# Altium footprint library IC.PcbLib: 15 footprints
Each footprint in its own frame and in the unit in brackets; x right, y up, seen from the top. Pads: shape width x height; smd on the part's side, far side on the other; paste and mask are expansions set on the pad; w line width, h text height; cw(c..) or ccw(c..) is an arc to the next point about the centre after c.
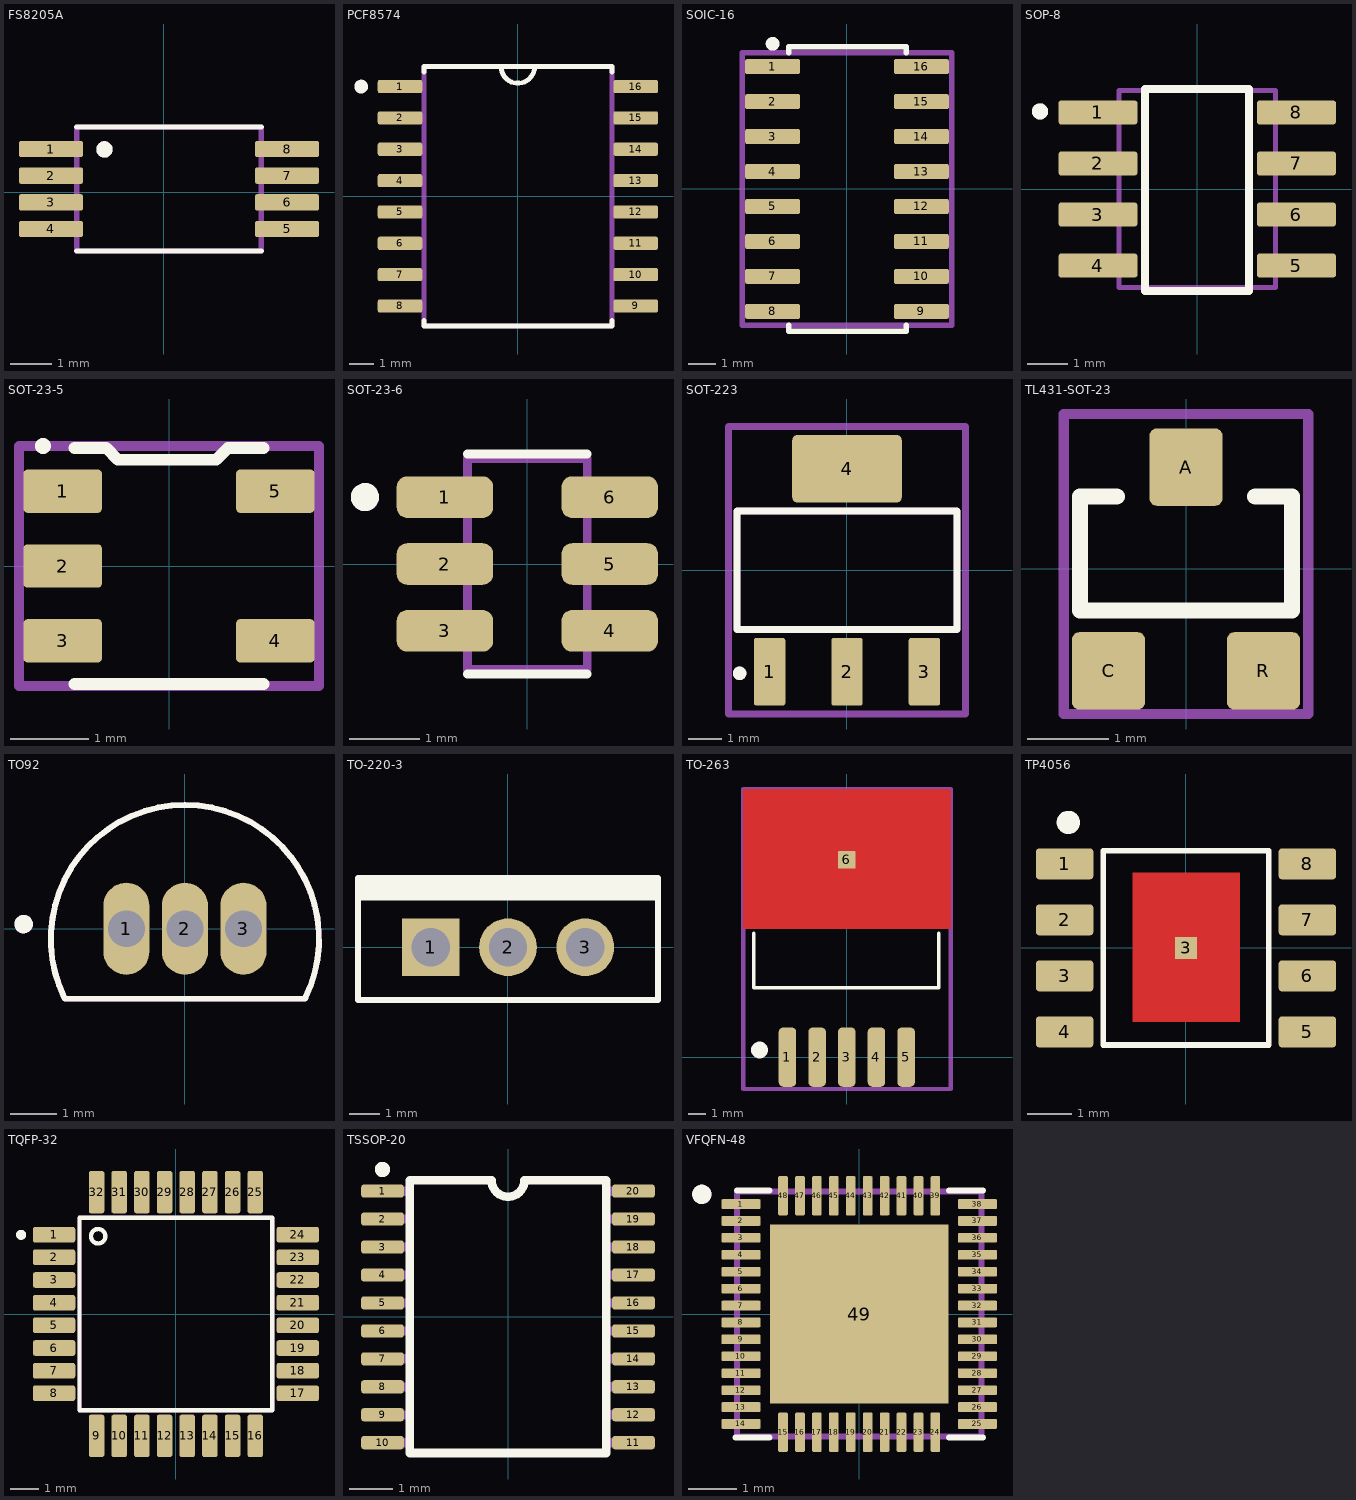
[diagram p0: the footprints below, top view; thin cyan lines are the x and y axes]

## FS8205A [mm]
pads (8):
  rrect25% 1.56x0.4 smd: 1(-2.753,1.051) 2(-2.753,0.401) 3(-2.753,-0.249) 4(-2.753,-0.899) 5(3.007,-0.899) 6(3.007,-0.249) 7(3.007,0.401) 8(3.007,1.051)
Top Overlay:
  circle w0.2: c-1.448,1.041 r0.1
  lines w0.127: -2.123,-1.439 2.377,-1.439 ; -2.123,1.591 2.377,1.591
Mechanical 13:
  circle w0.2: c-1.448,1.041 r0.1
  lines w0.127: -2.123,-1.439 -2.123,1.591 2.377,1.591 2.377,-1.439 -2.123,-1.439
3D body "TSSOP-8.STEP": height 1.11, standoff 0.01, extent -3.149,-1.457 3.251,1.542

## PCF8574 [mil]
pads (16):
  rrect30% 71x21 smd: 1(-188,175) 2(-188,125) 3(-188,75) 4(-188,25) 5(-188,-25) 6(-188,-75) 7(-188,-125) 8(-188,-175) 9(188,-175) 10(188,-125) 11(188,-75) 12(188,-25) 13(188,25) 14(188,75) 15(188,125) 16(188,175)
Top Overlay:
  circle w11.81: c-250,175 r5
  lines w7.87: -150,-198 -150,-207 150,-207 150,-198 ; -150,198 -150,207 -12,207 12,207 150,207 150,198 ; -26.73,207 ccw(c0,207) 26.73,207
Mechanical 13:
  lines w7.87: -150,-207 -150,207 150,207 150,-207 -150,-207
3D body "SOIC16 wide.stp": height 78.74, standoff 0.13, extent -200.06,-198.43 200.06,198.43

## SOIC-16 [mm]
pads (16):
  rrect30% 2x0.55 smd: 1(-2.7,4.445) 2(-2.7,3.175) 3(-2.7,1.905) 4(-2.7,0.635) 5(-2.7,-0.635) 6(-2.7,-1.905) 7(-2.7,-3.175) 8(-2.7,-4.445) 9(2.7,-4.445) 10(2.7,-3.175) 11(2.7,-1.905) 12(2.7,-0.635) 13(2.7,0.635) 14(2.7,1.905) 15(2.7,3.175) 16(2.7,4.445)
Top Overlay:
  circle w0.25: c-2.7,5.27 r0.125
  lines w0.2: -2.108,-4.95 -2.108,-5.156 2.159,-5.156 2.159,-4.953 ; -2.108,4.95 -2.108,5.156 2.159,5.156 2.159,4.953
Mechanical 13:
  lines w0.2: -3.81,-4.95 -3.81,4.95 3.81,4.95 3.81,-4.95 -3.81,-4.95
3D body "User Library-SOIC-16-1.step": height 1.4, standoff 0, extent -3,-4.95 3,4.95

## SOP-8 [mm]
pads (8):
  rrect25% 1.97x0.6 smd: 1(-2.47,1.905) 2(-2.47,0.635) 3(-2.47,-0.635) 4(-2.47,-1.905) 5(2.47,-1.905) 6(2.47,-0.635) 7(2.47,0.635) 8(2.47,1.905)
Top Overlay:
  circle w0.2: c-3.912,1.93 r0.1
  lines w0.2: -1.295,-2.54 1.295,-2.54 1.295,2.489 -1.295,2.489 -1.295,-2.54
Mechanical 13:
  circle w0.2: c-3.912,1.93 r0.1
  lines w0.127: -1.95,-2.452 -1.95,2.452 1.95,2.452 1.95,-2.452 -1.95,-2.452
3D body "S08.stp": height 1.55, standoff 0, extent -2.949,-2.45 3.051,2.45

## SOT-23-5 [mm] "SOT-23-5"
height 1.1
pads (5):
  rrect20% 1x0.55 smd: 1(-1.35,0.95) 2(-1.35,0) 3(-1.35,-0.95) 4(1.35,-0.95) 5(1.35,0.95)
Top Overlay:
  circle w0.1: c-1.6,1.524 r0.051
  lines w0.15: -1.2,-1.5 1.2,-1.5 ; -1.2,1.5 -0.8,1.5 -0.65,1.35 0.6,1.35 0.75,1.5 1.2,1.5
Mechanical 13:
  lines w0.127: -1.905,-1.524 -1.905,1.524 1.905,1.524 1.905,-1.524 -1.905,-1.524
3D body "SOT23_5.stp": height 0.92, standoff 0.01, extent -1.603,-1.5 1.602,1.5

## SOT-23-6 [mm]
pads (6):
  rrect50% 1.37x0.59 smd: 1(-1.17,0.95) 2(-1.17,0) 3(-1.17,-0.95) 4(1.17,-0.95) 5(1.17,0) 6(1.17,0.95)
Top Overlay:
  circle w0.2: c-2.305,0.95 r0.1
  lines w0.127: -0.85,-1.565 0.85,-1.565 ; -0.85,1.565 0.85,1.565
Mechanical 13:
  circle w0.2: c-2.305,0.95 r0.1
  lines w0.127: -0.85,-1.5 0.85,-1.5 0.85,1.5 -0.85,1.5 -0.85,-1.5
3D body "MT3608--3DModel-STEP-56544.STEP": height 1.45, standoff 0, extent -1.451,-1.45 1.349,1.45

## SOT-223 [mm]
pads (4):
  rrect15% 0.93x2 smd: 1(-2.29,-3) 2(0,-3) 3(2.29,-3)
  rrect15% 3.24x2 smd: 4(0,3)
Top Overlay:
  circle w0.2: c-3.175,-3.048 r0.1
  lines w0.2: -3.252,-1.753 3.253,-1.753 3.253,1.753 -3.252,1.753 -3.252,-1.753
Mechanical 13:
  circle w0.2: c-3.175,-3.048 r0.1
  lines w0.2: -3.502,-4.25 3.503,-4.25 3.503,4.25 -3.502,4.25 -3.502,-4.25 ; -3.252,-1.753 3.253,-1.753 3.253,1.753 -3.252,1.753 -3.252,-1.753
3D body "SW3DPS-SOT-223-DEFAULT.step": height 1.68, standoff 0, extent -3.25,-3.429 3.25,3.531

## TL431-SOT-23 [mm]
height 1.1
pads (3):
  rrect20% 0.9x0.95 smd: A(0,1.25) C(-0.95,-1.25) R(0.95,-1.25)
Top Overlay:
  lines w0.2: -0.85,0.889 -1.3,0.889 -1.3,-0.508 1.3,-0.508 1.3,0.889 0.85,0.889
Mechanical 13:
  lines w0.127: -1.5,-1.778 -1.5,1.9 1.5,1.9 1.5,-1.778 -1.5,-1.778
3D body "SOT23-3.stp": height 1.2, standoff 0.02, extent -1.5,-1.418 1.5,1.418

## TO92 [mm]
pads (3):
  oval 1x2 hole 0.8: 1(-1.27,0) 2(0,0) 3(1.27,0)
Top Overlay:
  circle w0.2: c-3.5,0.1 r0.1
  lines w0.127: -2.615,-1.499 cw(c0,-0.224) 2.615,-1.499 ; -2.605,-1.52 2.605,-1.52
Mechanical 13:
  circle w0.2: c-3.5,0.1 r0.1
  lines w0.127: -2.615,-1.499 cw(c0,-0.224) 2.615,-1.499 ; -2.605,-1.52 2.605,-1.52
3D body "TO-92.stp": height 6.18, standoff -3, extent -2.29,-1.21 2.282,2.35

## TO-220-3 [mm] "TO-92"
height 5.08
pads (3):
  rect 1.91x1.91 hole 1.27: 1(-2.55,0)
  round 1.91 hole 1.27: 2(0,0) 3(2.55,0)
Top Overlay:
  region: -4.953,2.286 -4.953,1.651 4.953,1.651 4.953,2.286
  lines w0.2: -4.953,1.651 4.953,1.651 ; -4.953,-1.74 -4.953,2.286 4.953,2.286 4.953,-1.74 -4.953,-1.74
Mechanical 13:
  lines w0.127: -4.953,-1.74 -4.953,2.286 4.953,2.286 4.953,-1.74 -4.953,-1.74
3D body "7508.SLDPRT": height 20, standoff -8.2, extent -5,-1.714 5,2.296

## TO-263 [mm]
pads (6):
  rrect50% 1x3.4 smd: 1(-3.4,0) 2(-1.7,0) 3(0,0) 4(1.7,0) 5(3.4,0)
  rrect8% 1x1 smd mask+0: 6(0,11.303)
Top Layer:
  region: -5.944,7.366 -5.944,15.367 5.969,15.367 5.969,7.366
Top Overlay:
  circle w0.5: c-5.004,0.406 r0.23
  lines w0.2: -5.334,7.087 -5.334,3.962 5.258,3.962 5.258,7.087
Top Solder:
  region: -5.944,7.366 -5.944,15.367 5.969,15.367 5.969,7.366
Mechanical 13:
  lines w0.254: -5.944,-1.829 -5.944,15.367 5.969,15.367 5.969,-1.829 -5.944,-1.829
3D body "SW3dPS-TO-263 5Ld.STEP": height 4.62, standoff 0.04, extent -5.11,-0.87 5.05,13.77

## TP4056 [mm]
pads (9):
  rrect20% 1.3x0.7 smd: 1(-2.75,1.905) 2(-2.75,0.635) 3(-2.75,-0.635) 4(-2.75,-1.905) 5(2.75,-1.905) 6(2.75,-0.635) 7(2.75,0.635) 8(2.75,1.905)
  rect 0.5x0.5 smd mask+0.102: 3(0,0)
Top Layer:
  region: -1.206,-1.676 -1.206,1.702 1.219,1.702 1.219,-1.676
Top Overlay:
  circle w0.3: c-2.667,2.845 r0.114
  lines w0.127: -1.88,-2.2 -1.88,2.2 1.88,2.2 1.88,-2.2 -1.88,-2.2
Top Paste:
  region: -0.254,0.508 -1.143,0.508 -1.143,1.524 -0.254,1.524
  region: 1.143,0.508 0.254,0.508 0.254,1.524 1.143,1.524
  region: -0.254,-1.397 -1.143,-1.397 -1.143,-0.381 -0.254,-0.381
  region: 1.143,-1.397 0.254,-1.397 0.254,-0.381 1.143,-0.381
Top Solder:
  region: -1.206,-1.676 1.219,-1.676 1.219,1.702 -1.206,1.702
3D body "CSD88539ND.STEP": height 1.75, standoff 0, extent -2.997,-2.426 2.997,2.477

## TQFP-32 [mm]
pads (32):
  rrect30% 1.5x0.55 smd: 1(-4.3,2.8) 2(-4.3,2) 3(-4.3,1.2) 4(-4.3,0.4) 5(-4.3,-0.4) 6(-4.3,-1.2) 7(-4.3,-2) 8(-4.3,-2.8) 17(4.3,-2.8) 18(4.3,-2) 19(4.3,-1.2) 20(4.3,-0.4) 21(4.3,0.4) 22(4.3,1.2) 23(4.3,2) 24(4.3,2.8)
  rrect30% 0.55x1.5 smd: 9(-2.8,-4.3) 10(-2,-4.3) 11(-1.2,-4.3) 12(-0.4,-4.3) 13(0.4,-4.3) 14(1.2,-4.3) 15(2,-4.3) 16(2.8,-4.3) 25(2.8,4.3) 26(2,4.3) 27(1.2,4.3) 28(0.4,4.3) 29(-0.4,4.3) 30(-1.2,4.3) 31(-2,4.3) 32(-2.8,4.3)
Top Overlay:
  circle w0.152: c-2.743,2.743 r0.254
  circle w0.203: c-5.461,2.794 r0.076
  lines w0.152: -3.4,-3.4 -3.4,3.4 3.4,3.4 3.4,-3.4 -3.4,-3.4
Mechanical 13:
  lines w0.152: -3.4,-3.4 -3.4,3.4 3.4,3.4 3.4,-3.4 -3.4,-3.4
3D body "Package, TQFP, 32, 7x7x1mm.STEP": height 1.1, standoff 0, extent -4.502,-4.499 4.502,4.499

## TSSOP-20 [mil]
pads (20):
  rrect40% 39x12 smd: 1(-114.87,115.16) 2(-114.87,89.57) 3(-114.87,63.98) 4(-114.87,38.39) 5(-114.87,12.8) 6(-114.87,-12.8) 7(-114.87,-38.39) 8(-114.87,-63.98) 9(-114.87,-89.57) 10(-114.87,-115.16) 11(114.87,-115.16) 12(114.87,-89.57) 13(114.87,-63.98) 14(114.87,-38.39) 15(114.87,-12.8) 16(114.87,12.8) 17(114.87,38.39) 18(114.87,63.98) 19(114.87,89.57) 20(114.87,115.16)
Top Overlay:
  circle w8: c-115,135 r3
  lines w7.87: -89.87,-124.59 -89.87,124.59 cw(c-89.46,124.59) -89.46,125 -15,125 ccw(c0,125) 15,125 89.46,125 cw(c89.46,124.59) 89.87,124.59 89.87,-124.59 -89.87,-124.59
Mechanical 13:
  region: -123.02,111.16 -123.02,119.3 -89.87,119.3 -89.87,111.16
  region: -123.12,85.57 -123.12,93.75 -89.87,93.75 -89.87,85.57
  region: -122.88,59.98 -122.88,67.98 -89.87,67.98 -89.87,59.98
  region: -123.08,34.39 -123.08,42.46 -89.87,42.46 -89.87,34.39
  region: -123.1,8.8 -123.1,16.83 -89.87,16.83 -89.87,8.8
  region: -122.9,-16.8 -122.9,-8.8 -89.87,-8.8 -89.87,-16.8
  region: -122.91,-42.39 -122.91,-34.4 -89.87,-34.4 -89.87,-42.39
  region: -123.06,-67.98 -123.06,-60.07 -89.87,-60.07 -89.87,-67.98
  region: -123.11,-93.57 -123.11,-85.73 -89.87,-85.73 -89.87,-93.57
  region: -122.88,-119.16 -122.88,-111.17 -89.87,-111.17 -89.87,-119.16
  region: 89.95,-119.16 89.95,-111.25 122.87,-111.25 122.87,-119.16
  region: 89.91,-93.57 89.91,-85.6 122.87,-85.6 122.87,-93.57
  region: 89.92,-67.98 89.92,-60.01 122.87,-60.01 122.87,-67.98
  region: 89.92,-42.39 89.92,-34.4 122.87,-34.4 122.87,-42.39
  region: 89.95,-16.8 89.95,-8.8 122.87,-8.8 122.87,-16.8
  region: 89.93,8.8 89.93,16.81 122.87,16.81 122.87,8.8
  region: 89.89,34.39 89.89,42.39 122.87,42.39 122.87,34.39
  region: 89.88,59.98 89.88,67.98 122.87,67.98 122.87,59.98
  region: 89.88,85.57 89.88,93.57 122.87,93.57 122.87,85.57
  region: 89.96,111.16 89.96,119.28 122.87,119.28 122.87,111.16
3D body "STM8S003F3P6.step": height 43.31, standoff 0, extent -125.98,-127.95 125.98,127.95

## VFQFN-48 [mm]
pads (49):
  rrect25% 0.81x0.2 smd: 1(-2.445,2.275) 2(-2.445,1.925) 3(-2.445,1.575) 4(-2.445,1.225) 5(-2.445,0.875) 6(-2.445,0.525) 7(-2.445,0.175) 8(-2.445,-0.175) 9(-2.445,-0.525) 10(-2.445,-0.875) 11(-2.445,-1.225) 12(-2.445,-1.575) 13(-2.445,-1.925) 14(-2.445,-2.275) 25(2.445,-2.275) 26(2.445,-1.925) 27(2.445,-1.575) 28(2.445,-1.225) 29(2.445,-0.875) 30(2.445,-0.525) 31(2.445,-0.175) 32(2.445,0.175) 33(2.445,0.525) 34(2.445,0.875) 35(2.445,1.225) 36(2.445,1.575) 37(2.445,1.925) 38(2.445,2.275)
  rrect25% 0.2x0.81 smd: 15(-1.575,-2.445) 16(-1.225,-2.445) 17(-0.875,-2.445) 18(-0.525,-2.445) 19(-0.175,-2.445) 20(0.175,-2.445) 21(0.525,-2.445) 22(0.875,-2.445) 23(1.225,-2.445) 24(1.575,-2.445) 39(1.575,2.445) 40(1.225,2.445) 41(0.875,2.445) 42(0.525,2.445) 43(0.175,2.445) 44(-0.175,2.445) 45(-0.525,2.445) 46(-0.875,2.445) 47(-1.225,2.445) 48(-1.575,2.445)
  rect 3.7x3.7 smd paste-3: 49(0,0)
Top Overlay:
  circle w0.2: c-3.255,2.475 r0.1
  lines w0.127: -2.555,-2.555 -1.86,-2.555 ; -2.53,2.555 -1.86,2.555 ; 1.86,-2.555 2.555,-2.555 ; 1.86,2.555 2.555,2.555
Top Paste:
  region: 1.395,0.225 0.225,0.225 0.225,1.395 1.395,1.395
  region: -0.225,0.225 -1.398,0.225 -1.398,1.395 -0.225,1.395
  region: -0.225,-1.395 -1.395,-1.395 -1.395,-0.225 -0.225,-0.225
  region: 1.395,-1.397 0.225,-1.397 0.225,-0.225 1.395,-0.225
Mechanical 13:
  circle w0.2: c-3.255,2.475 r0.1
  lines w0.127: -2.53,-2.53 2.53,-2.53 2.53,2.53 -2.53,2.53 -2.53,-2.53
3D body "ESP32-SOC-6x6.STEP": height 0.87, standoff 0, extent -2.794,-2.874 3.208,3.128
3D body "ESP32-C3-SOC.STEP": height 0.87, standoff 0, extent 4.103,-3.009 9.105,1.993